# EAGLE library part DRV2603 (library PMIC)
IC LRA/ERM HAPTIC DRIVER 10QFN Datasheet <http://www.ti.com/lit/ds/symlink/drv2603.pdf>
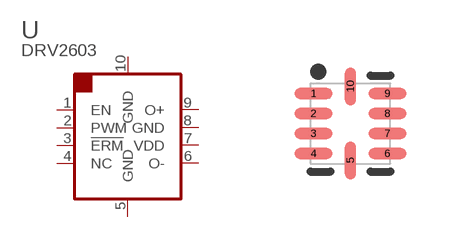
[diagram p2: symbol with the pads of 10-WFQFN; footprint 10-WFQFN]

Designator prefix U

## DRV2603RUN (MFPN: DRV2603RUN)  [10-WFQFN]
1  EN  in
2  PWM  in
3  !ERM  pas
4  NC  nc
5  GND  pwr
6  O-  out
7  VDD  pwr
8  GND  pwr
9  O+  out
10  GND  pwr

## Footprint 10-WFQFN (pad centres in mm)
10-WFQFN Plastic Quad Flatpack No-Lead 2x2mm
smd 0.95 x 0.28: 1 -0.925,0.75; 2 -0.925,0.25; 3 -0.925,-0.25; 4 -0.925,-0.75; 6 0.925,-0.75; 7 0.925,-0.25; 8 0.925,0.25; 9 0.925,0.75
smd 0.28 x 0.95: 5 0,-0.925; 10 0,0.925